# Altium schematic symbol library Schematic Library.SCHLIB: 9 symbols
Pins are listed as number, name and electrical type; pins without a type are passive.

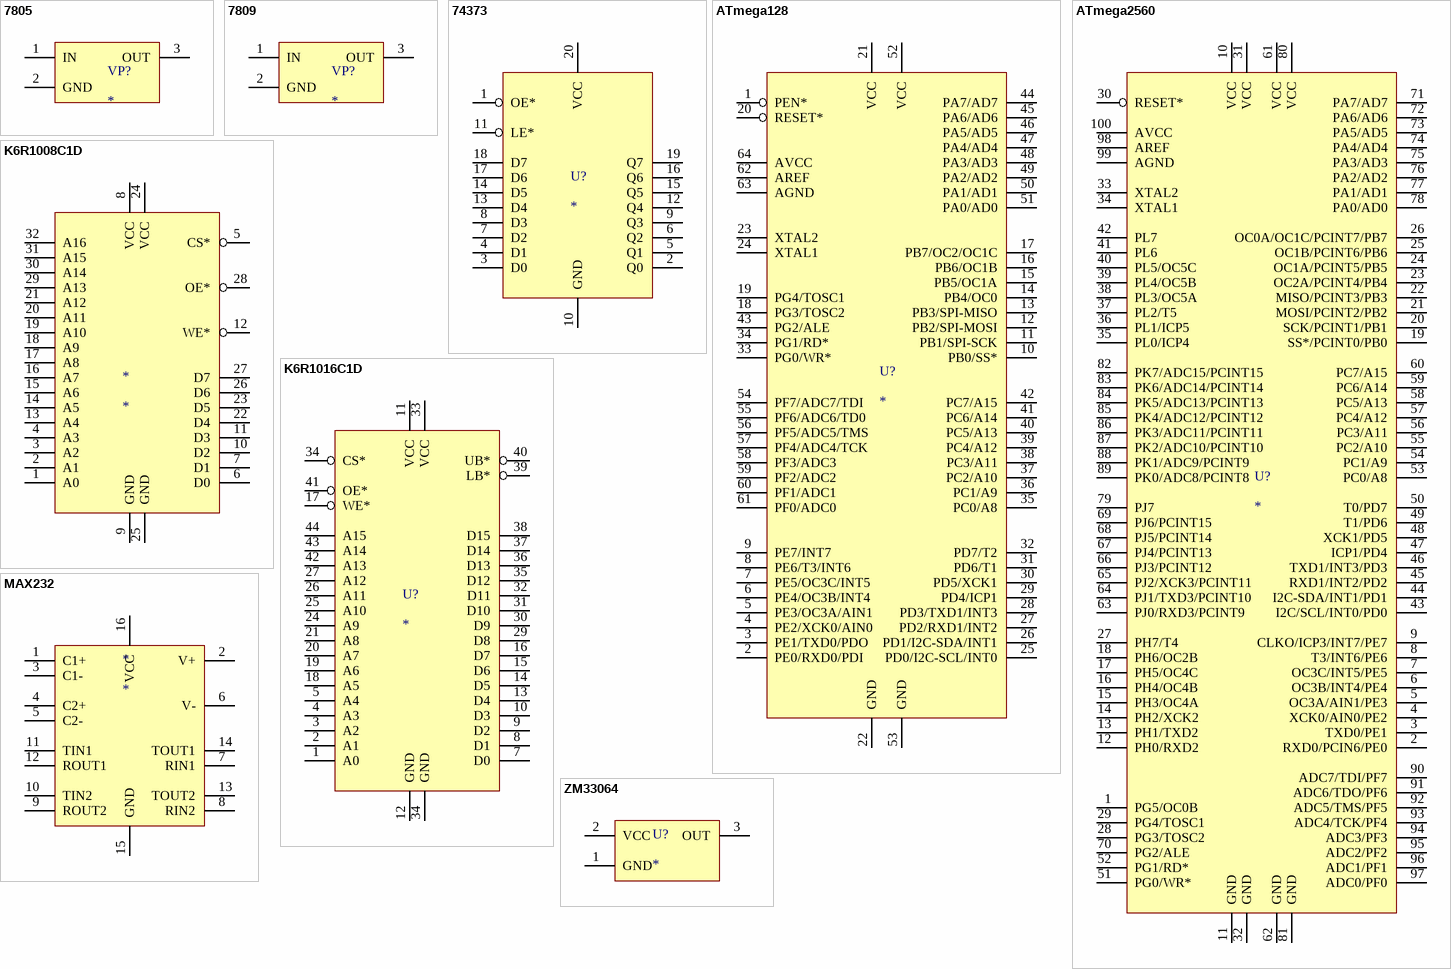
[diagram p0: symbols 7805 to ZM33064]

## 7805
designator VP?
Generic 5V Voltage Regulator
footprint PIN3
pins: 1 IN, 2 GND, 3 OUT

## 7809
designator VP?
Generic 9V Voltage Regulator
footprint PIN3
pins: 1 IN, 2 GND, 3 OUT

## 74373
designator U?
Generic Octal 8-bit D-type Latch
footprint SO-G20/Y1.45
pins: 1 OE*, 2 Q0, 3 D0, 4 D1, 5 Q1, 6 Q2, 7 D2, 8 D3, 9 Q3, 10 GND, 11 LE*, 12 Q4, 13 D4, 14 D5, 15 Q5, 16 Q6, 17 D6, 18 D7, 19 Q7, 20 VCC

## ATmega128
designator U?
Atmel ATmega128 MCU
footprint QFP14x14-G64/Y1.4N
pins: 1 PEN*, 2 PE0/RXD0/PDI, 3 PE1/TXD0/PDO, 4 PE2/XCK0/AIN0, 5 PE3/OC3A/AIN1, 6 PE4/OC3B/INT4, 7 PE5/OC3C/INT5, 8 PE6/T3/INT6, 9 PE7/INT7, 10 PB0/SS*, 11 PB1/SPI-SCK, 12 PB2/SPI-MOSI, 13 PB3/SPI-MISO, 14 PB4/OC0, 15 PB5/OC1A, 16 PB6/OC1B, 17 PB7/OC2/OC1C, 18 PG3/TOSC2, 19 PG4/TOSC1, 20 RESET*, 21 VCC, 22 GND, 23 XTAL2, 24 XTAL1, 25 PD0/I2C-SCL/INT0, 26 PD1/I2C-SDA/INT1, 27 PD2/RXD1/INT2, 28 PD3/TXD1/INT3, 29 PD4/ICP1, 30 PD5/XCK1, 31 PD6/T1, 32 PD7/T2, 33 PG0/WR*, 34 PG1/RD*, 35 PC0/A8, 36 PC1/A9, 37 PC2/A10, 38 PC3/A11, 39 PC4/A12, 40 PC5/A13, 41 PC6/A14, 42 PC7/A15, 43 PG2/ALE, 44 PA7/AD7, 45 PA6/AD6, 46 PA5/AD5, 47 PA4/AD4, 48 PA3/AD3, 49 PA2/AD2, 50 PA1/AD1, 51 PA0/AD0, 52 VCC, 53 GND, 54 PF7/ADC7/TDI, 55 PF6/ADC6/TD0, 56 PF5/ADC5/TMS, 57 PF4/ADC4/TCK, 58 PF3/ADC3, 59 PF2/ADC2, 60 PF1/ADC1, 61 PF0/ADC0, 62 AREF, 63 AGND, 64 AVCC

## ATmega2560
designator U?
Atmel ATmega2560 MCU
footprint QFP14x14-G64/Y1.4N
pins: 1 PG5/OC0B, 2 RXD0/PCIN6/PE0, 3 TXD0/PE1, 4 XCK0/AIN0/PE2, 5 OC3A/AIN1/PE3, 6 OC3B/INT4/PE4, 7 OC3C/INT5/PE5, 8 T3/INT6/PE6, 9 CLKO/ICP3/INT7/PE7, 10 VCC, 11 GND, 12 PH0/RXD2, 13 PH1/TXD2, 14 PH2/XCK2, 15 PH3/OC4A, 16 PH4/OC4B, 17 PH5/OC4C, 18 PH6/OC2B, 19 SS*/PCINT0/PB0, 20 SCK/PCINT1/PB1, 21 MOSI/PCINT2/PB2, 22 MISO/PCINT3/PB3, 23 OC2A/PCINT4/PB4, 24 OC1A/PCINT5/PB5, 25 OC1B/PCINT6/PB6, 26 OC0A/OC1C/PCINT7/PB7, 27 PH7/T4, 28 PG3/TOSC2, 29 PG4/TOSC1, 30 RESET*, 31 VCC, 32 GND, 33 XTAL2, 34 XTAL1, 35 PL0/ICP4, 36 PL1/ICP5, 37 PL2/T5, 38 PL3/OC5A, 39 PL4/OC5B, 40 PL5/OC5C, 41 PL6, 42 PL7, 43 I2C/SCL/INT0/PD0, 44 I2C-SDA/INT1/PD1, 45 RXD1/INT2/PD2, 46 TXD1/INT3/PD3, 47 ICP1/PD4, 48 XCK1/PD5, 49 T1/PD6, 50 T0/PD7, 51 PG0/WR*, 52 PG1/RD*, 53 PC0/A8, 54 PC1/A9, 55 PC2/A10, 56 PC3/A11, 57 PC4/A12, 58 PC5/A13, 59 PC6/A14, 60 PC7/A15, 61 VCC, 62 GND, 63 PJ0/RXD3/PCINT9, 64 PJ1/TXD3/PCINT10, 65 PJ2/XCK3/PCINT11, 66 PJ3/PCINT12, 67 PJ4/PCINT13, 68 PJ5/PCINT14, 69 PJ6/PCINT15, 70 PG2/ALE, 71 PA7/AD7, 72 PA6/AD6, 73 PA5/AD5, 74 PA4/AD4, 75 PA3/AD3, 76 PA2/AD2, 77 PA1/AD1, 78 PA0/AD0, 79 PJ7, 80 VCC, 81 GND, 82 PK7/ADC15/PCINT15, 83 PK6/ADC14/PCINT14, 84 PK5/ADC13/PCINT13, 85 PK4/ADC12/PCINT12, 86 PK3/ADC11/PCINT11, 87 PK2/ADC10/PCINT10, 88 PK1/ADC9/PCINT9, 89 PK0/ADC8/PCINT8, 90 ADC7/TDI/PF7, 91 ADC6/TDO/PF6, 92 ADC5/TMS/PF5, 93 ADC4/TCK/PF4, 94 ADC3/PF3, 95 ADC2/PF2, 96 ADC1/PF1, 97 ADC0/PF0, 98 AREF, 99 AGND, 100 AVCC

## K6R1008C1D
designator *
Samsung 128Kx8 High-Speed Static RAM
footprint SO-G32/Y1.45
pins: 1 A0, 2 A1, 3 A2, 4 A3, 5 CS*, 6 D0, 7 D1, 8 VCC, 9 GND, 10 D2, 11 D3, 12 WE*, 13 A4, 14 A5, 15 A6, 16 A7, 17 A8, 18 A9, 19 A10, 20 A11, 21 A12, 22 D4, 23 D5, 24 VCC, 25 GND, 26 D6, 27 D7, 28 OE*, 29 A13, 30 A14, 31 A15, 32 A16

## K6R1016C1D
designator U?
Samsung 64Kx16 High-Speed Static RAM
footprint SO-G44/Y2.15
pins: 1 A0, 2 A1, 3 A2, 4 A3, 5 A4, 7 D0, 8 D1, 9 D2, 10 D3, 11 VCC, 12 GND, 13 D4, 14 D5, 15 D6, 16 D7, 17 WE*, 18 A5, 19 A6, 20 A7, 21 A8, 24 A9, 25 A10, 26 A11, 27 A12, 29 D8, 30 D9, 31 D10, 32 D11, 33 VCC, 34 GND, 34 CS*, 35 D12, 36 D13, 37 D14, 38 D15, 39 LB*, 40 UB*, 41 OE*, 42 A13, 43 A14, 44 A15

## MAX232
designator *
Maxim RS-232 Transceiver
footprint SO-G16/C5.85
pins: 1 C1+, 2 V+, 3 C1-, 4 C2+, 5 C2-, 6 V-, 7 RIN1, 8 RIN2, 9 ROUT2, 10 TIN2, 11 TIN1, 12 ROUT1, 13 TOUT2, 14 TOUT1, 15 GND, 16 VCC

## ZM33064
designator U?
Generic 5V Supply Voltage Monitor
footprint BCY-W3
pins: 1 GND, 2 VCC, 3 OUT